# Altium footprint library ESP32_PCB_Lib.PcbLib: 17 footprints (part 1 of 2)
Each footprint in its own frame and in the unit in brackets; x right, y up, seen from the top. Pads: shape width x height; smd on the part's side, far side on the other; paste and mask are expansions set on the pad; w line width, h text height; cw(c..) or ccw(c..) is an arc to the next point about the centre after c.
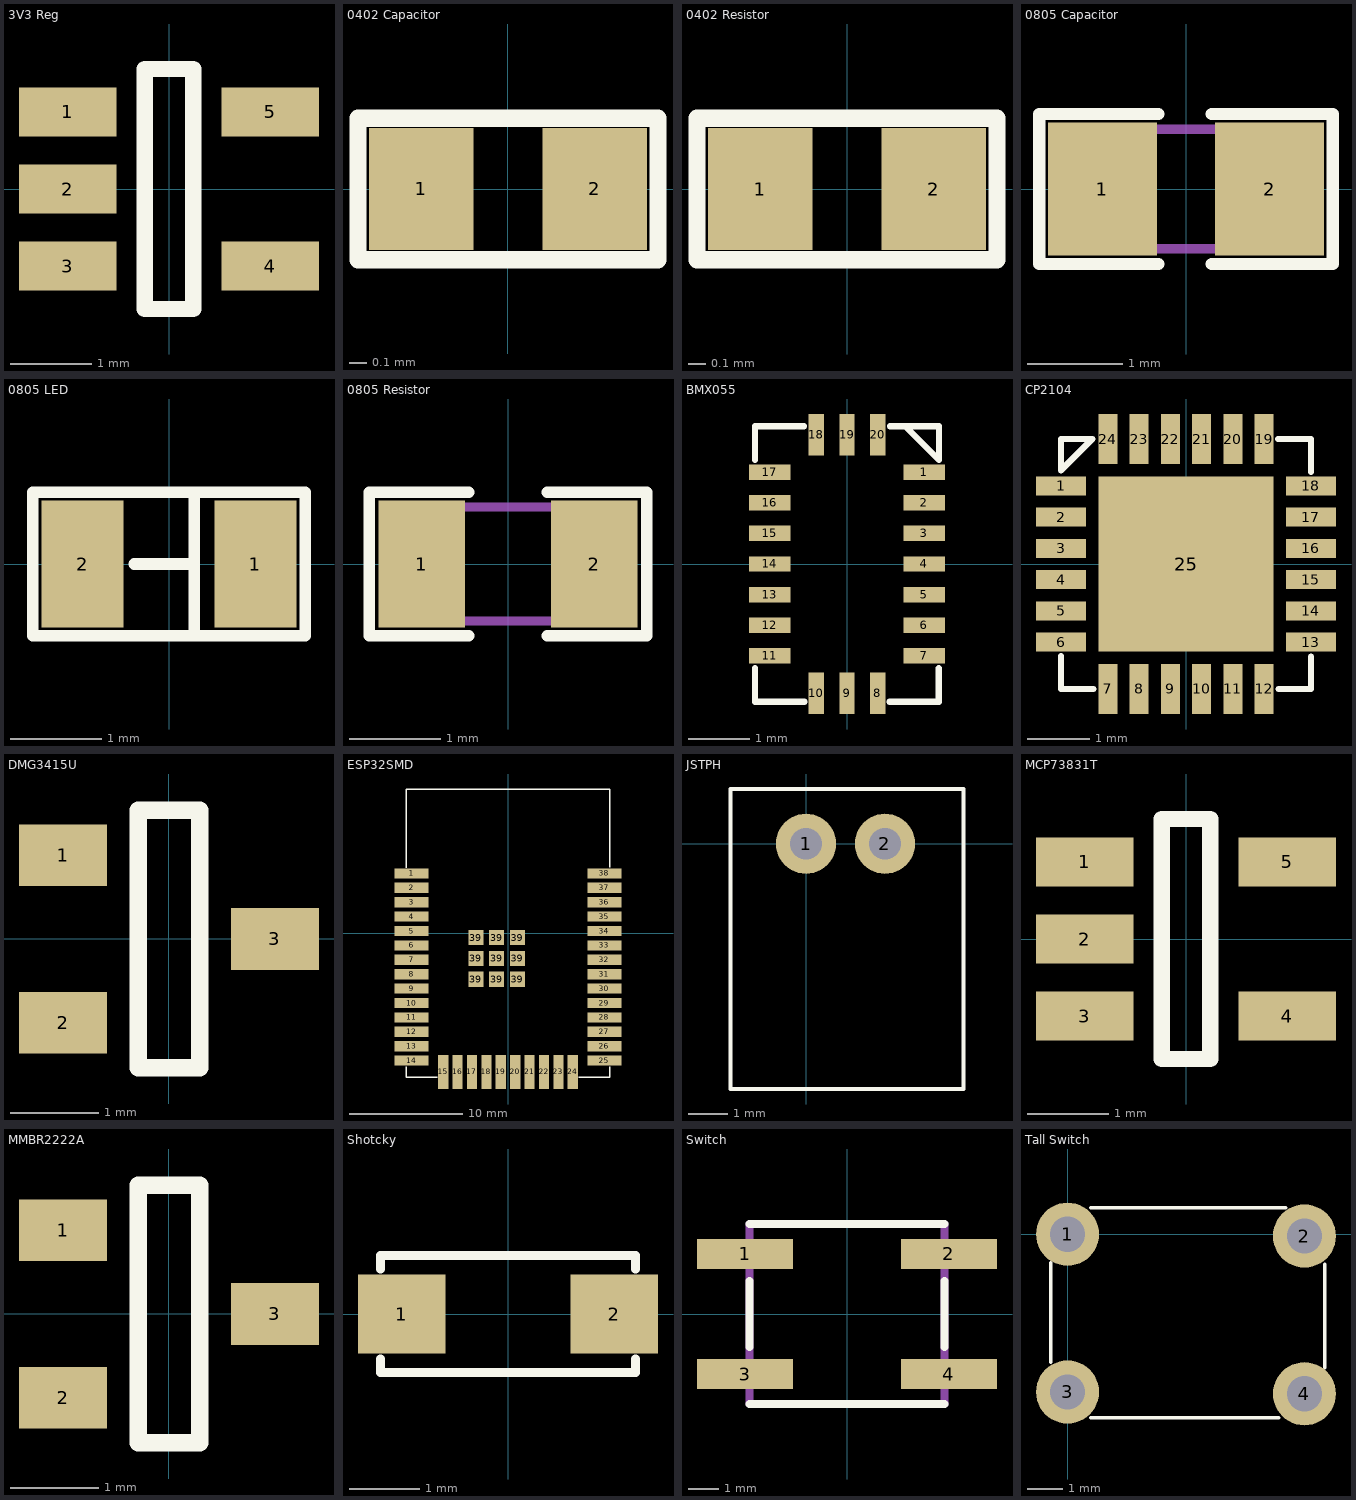
[diagram p0: the footprints below, top view; thin cyan lines are the x and y axes]

## 3V3 Reg [mm]
pads (5):
  rect 1.2x0.6 smd: 1(-1.25,0.95) 2(-1.25,0) 3(-1.25,-0.95) 4(1.25,-0.95) 5(1.25,0.95)
Top Overlay:
  lines w0.2: -0.3,-1.48 -0.3,1.48 0.3,1.48 0.3,-1.48 -0.3,-1.48
3D body "AP2112K-3.3TRG1.stp": height 1.3, standoff 0, extent -1.412,-1.48 1.412,1.48

## 0402 Capacitor [mm]
pads (2):
  rect 0.6x0.7 smd: 1(-0.5,0) 2(0.5,0)
Top Overlay:
  lines w0.1: -0.864,-0.406 -0.864,0.406 0.864,0.406 0.864,-0.406 -0.864,-0.406
3D body "0402 Capacitor.stp": height 0.55, standoff 0, extent -0.525,-0.275 0.525,0.275

## 0402 Resistor [mm]
pads (2):
  rect 0.6x0.7 smd: 1(-0.5,0) 2(0.5,0)
Top Overlay:
  lines w0.1: -0.864,-0.406 0.864,-0.406 0.864,0.406 -0.864,0.406 -0.864,-0.406
3D body "0402 Resistor.step": height 0.36, standoff 0.01, extent -0.5,-0.25 0.5,0.25

## 0805 Capacitor [mil]
pads (2):
  rect 45x54.72 smd: 1(-34.5,0) 2(34.5,0)
Top Overlay:
  lines w5: -11.4,-31 -60.5,-31 -60.5,31 -11.4,31 ; 10.6,-31 60.5,-31 60.5,31 10.6,31
Mechanical 13:
  lines w3.94: -39.77,-24.61 -39.77,24.61 38.97,24.61 38.97,-24.61 -39.77,-24.61
3D body "CC0805KRX7R9BB103.stp": height 53.15, standoff 0, extent -39.77,-24.61 38.97,24.61

## 0805 LED [mm]
pads (2):
  rect 0.9x1.4 smd: 1(0.95,0) 2(-0.95,0)
Top Overlay:
  lines w0.127: -0.381,0 0.279,0 ; 0.279,-0.787 0.279,0.762 ; -1.499,-0.787 -1.499,0.787 1.499,0.787 1.499,-0.787 -1.499,-0.787
3D body "0805 LED.step": height 0.9, standoff -0.01, extent -1.05,-0.675 1.05,0.675

## 0805 Resistor [mm]
pads (2):
  rect 0.95x1.4 smd: 1(-0.95,0) 2(0.95,0)
Top Overlay:
  lines w0.127: -0.432,-0.787 -1.524,-0.787 -1.524,0.787 -0.432,0.787 ; 0.432,-0.787 1.524,-0.787 1.524,0.787 0.432,0.787
Mechanical 13:
  lines w0.1: -1,-0.625 1,-0.625 1,0.625 -1,0.625 -1,-0.625
3D body "RC0805JR-071KL.stp": height 0.6, standoff 0, extent -1,-0.625 1,0.625

## BMX055 [mm]
pads (20):
  rect 0.675x0.25 smd: 1(1.262,1.5) 2(1.262,1) 3(1.262,0.5) 4(1.262,0.001) 5(1.262,-0.5) 6(1.262,-1) 7(1.262,-1.5) 11(-1.262,-1.5) 12(-1.262,-1) 13(-1.262,-0.5) 14(-1.262,0.001) 15(-1.262,0.5) 16(-1.262,1) 17(-1.262,1.5)
  rect 0.25x0.675 smd: 8(0.5,-2.113) 9(0,-2.113) 10(-0.5,-2.113) 18(-0.5,2.113) 19(0,2.113) 20(0.5,2.113)
Top Overlay:
  lines w0.1: -1.5,-1.703 -1.5,-2.25 -0.697,-2.25 ; -1.5,1.7 -1.5,2.25 -0.701,2.25 ; 0.697,-2.25 1.5,-2.25 ; 1.499,-2.25 1.499,-1.702 ; 1.5,1.715 1.5,1.703 ; 1.5,1.703 1.5,2.25 0.701,2.25 0.953,2.25 1.5,1.703
3D body "User Library-BMX055.step": height 1.01, standoff 0.01, extent -1.5,-2.25 1.5,2.25

## CP2104 [mm]
pads (25):
  rect 0.8x0.3 smd: 1(-2,1.25) 2(-2,0.75) 3(-2,0.25) 4(-2,-0.25) 5(-2,-0.75) 6(-2,-1.25) 13(2,-1.25) 14(2,-0.75) 15(2,-0.25) 16(2,0.25) 17(2,0.75) 18(2,1.25)
  rect 0.3x0.8 smd: 7(-1.25,-2) 8(-0.75,-2) 9(-0.25,-2) 10(0.25,-2) 11(0.75,-2) 12(1.25,-2) 19(1.25,2) 20(0.75,2) 21(0.25,2) 22(-0.25,2) 23(-0.75,2) 24(-1.25,2)
  rect 2.8x2.8 smd: 25(0,0)
Top Overlay:
  lines w0.1: -2,-1.473 -2,-2 -1.48,-2 ; 1.473,2 2,2 2,1.473 ; 1.48,-2 2,-2 2,-1.48 ; -2,1.5 -2,2 -1.5,2 -2,1.5
3D body "CP2104-F03-GMR.stp": height 0.8, standoff 0, extent -2.05,-2.05 2.05,2.05

## DMG3415U [mm]
pads (3):
  rect 1x0.7 smd: 1(-1.2,0.95) 2(-1.2,-0.95) 3(1.2,0)
Top Overlay:
  lines w0.2: -0.35,-1.46 -0.35,1.46 0.35,1.46 0.35,-1.46 -0.35,-1.46
3D body "MMBT2222A.stp": height 1.2, standoff 0, extent -1.2,-1.46 1.2,1.46

## ESP32SMD [mm]
pads (47):
  rect 3x0.9 smd: 1(-8.5,5.26) 2(-8.5,3.99) 3(-8.5,2.72) 4(-8.5,1.45) 5(-8.5,0.18) 6(-8.5,-1.09) 7(-8.5,-2.36) 8(-8.5,-3.63) 9(-8.5,-4.9) 10(-8.5,-6.17) 11(-8.5,-7.44) 12(-8.5,-8.71) 13(-8.5,-9.98) 14(-8.5,-11.25) 25(8.5,-11.25) 26(8.5,-9.98) 27(8.5,-8.71) 28(8.5,-7.44) 29(8.5,-6.17) 30(8.5,-4.9) 31(8.5,-3.63) 32(8.5,-2.36) 33(8.5,-1.09) 34(8.5,0.18) 35(8.5,1.45) 36(8.5,2.72) 37(8.5,3.99) 38(8.5,5.26)
  rect 0.9x3 smd: 15(-5.715,-12.25) 16(-4.445,-12.25) 17(-3.175,-12.25) 18(-1.905,-12.25) 19(-0.635,-12.25) 20(0.635,-12.25) 21(1.905,-12.25) 22(3.175,-12.25) 23(4.445,-12.25) 24(5.715,-12.25)
  rect 1.33x1.33 smd: 39(-2.835,-4.075) 39(-2.835,-2.24) 39(-2.835,-0.405) 39(-1,-4.075) 39(-1,-2.24) 39(-1,-0.405) 39(0.835,-4.075) 39(0.835,-2.24) 39(0.835,-0.405)
Top Overlay:
  lines w0.127: -8.95,-11.769 -8.95,-12.7 -6.248,-12.7 ; -8.95,5.775 -8.95,12.7 8.95,12.7 8.95,5.8 ; 6.248,-12.7 8.95,-12.7 8.95,-11.769
3D body "ESP-32 .step": height 2.61, standoff -0.1, extent -8.95,-12.7 8.95,12.7

## JSTPH [mil]
pads (2):
  round 60 hole 31.5: 1(0,0) 2(78.74,0)
Top Overlay:
  lines w3.94: -75.28,-244.61 157,-244.61 157,54.61 -75.28,54.61 -75.28,-244.61
3D body "214.STEP": height 189.48, standoff -133.35, extent -75.28,-244.61 157,54.61

## MCP73831T [mm]
pads (5):
  rect 1.2x0.6 smd: 1(-1.25,0.95) 2(-1.25,0) 3(-1.25,-0.95) 4(1.25,-0.95) 5(1.25,0.95)
Top Overlay:
  lines w0.2: -0.3,-1.48 0.3,-1.48 0.3,1.48 -0.3,1.48 -0.3,-1.48
3D body "AP2112K-3.3TRG1.stp": height 1.3, standoff 0, extent -1.412,-1.48 1.412,1.48

## MMBR2222A [mm]
pads (3):
  rect 1x0.7 smd: 1(-1.2,0.95) 2(-1.2,-0.95) 3(1.2,0)
Top Overlay:
  lines w0.2: -0.35,-1.46 0.35,-1.46 0.35,1.46 -0.35,1.46 -0.35,-1.46
3D body "MMBT2222A.stp": height 1.2, standoff 0, extent -1.2,-1.46 1.2,1.46

## Shotcky [mm]
pads (2):
  rect 1.24x1.12 smd: 1(-1.5,0) 2(1.5,0)
Top Overlay:
  lines w0.127: -1.803,0.635 -1.803,0.822 -1.8,0.825 1.8,0.825 1.8,0.638 ; -1.8,-0.638 -1.8,-0.825 1.8,-0.825 1.8,-0.638
3D body "MBR120VLSFT1.stp": height 0.98, standoff 0, extent -1.8,-0.825 1.8,0.825

## Switch [mm]
pads (4):
  rect 3.2x1 smd: 1(-3.4,2) 2(3.4,2) 3(-3.4,-2) 4(3.4,-2)
Top Overlay:
  lines w0.254: -3.25,-3 3.25,-3 ; -3.25,-1.1 -3.25,1.1 ; -3.25,3 3.25,3 ; 3.25,-1.1 3.25,1.1
Mechanical 13:
  lines w0.254: -3.25,-3 -3.25,3 3.25,3 3.25,-3 -3.25,-3
3D body "evqq2-bfkpuy-03w_.step": height 3.11, standoff 0.01, extent -3.3,-3 3.3,3

## Tall Switch [mm]
pads (4):
  round 1.8 hole 1: 1(0,0) 2(6.756,-0.051) 3(0,-4.5) 4(6.756,-4.551)
Top Overlay:
  lines w0.1: -0.483,-3.658 -0.483,-0.813 ; 0.66,-5.232 6.02,-5.232 ; 0.66,0.762 6.223,0.762 ; 7.341,-3.81 7.341,-0.864
3D body "Switch.stp": height 9.51, standoff -3.5, extent -0.471,-5.23 7.329,0.76